# EAGLE library part 74*7032 (library 74ttl-din)
Quad 2-input OR, schmitt trigger
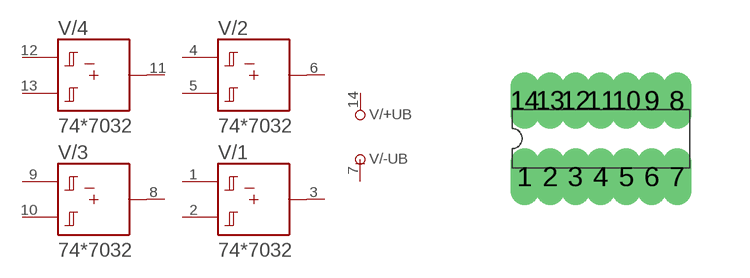
[diagram p158: symbol with the pads of DIL14; footprint DIL14]

Designator prefix V; gates /+UB=+UB /-UB=-UB /1=7032 /2=7032 /3=7032 /4=7032

## 747032N  [DIL14]
1  /1:A  in
2  /1:B  in
3  /1:Y  out
4  /2:A  in
5  /2:B  in
6  /2:Y  out
7  /-UB:-UB  pwr
8  /3:Y  out
9  /3:A  in
10  /3:B  in
11  /4:Y  out
12  /4:A  in
13  /4:B  in
14  /+UB:+UB  pwr

## Footprint DIL14 (pad centres in mm)
Dual In Line Package
drill 0.203 long: 1 -1.905,-0.953; 2 -1.27,-0.953; 3 -0.635,-0.953; 4 0,-0.953; 5 0.635,-0.953; 6 1.27,-0.953; 7 1.905,-0.953; 8 1.905,0.953; 9 1.27,0.953; 10 0.635,0.953; 11 0,0.953; 12 -0.635,0.953; 13 -1.27,0.953; 14 -1.905,0.953